# EAGLE library part MAX662A (library ICs)
MAX662ACPA+ IC, VOLT CONVERTER, DIP8, 662
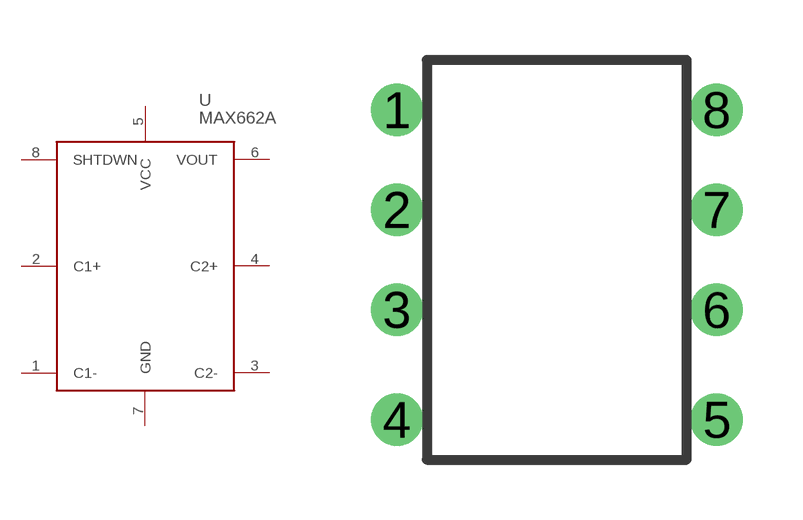
[diagram p77: symbol with the pads of DIP8; footprint DIP8]

Designator prefix U

## MAX662A (FARNELL: 1187942; PRICE_PER: 4.96; VALUE: MAX662A)  [DIP8]
1  C1-
2  C1+
3  C2-
4  C2+
5  VCC
6  VOUT
7  GND
8  SHTDWN

## Footprint DIP8 (pad centres in mm)
drill 0.8: 1 -4,3.75; 2 -4,1.25; 3 -4,-1.25; 4 -4,-4; 5 4,-4; 6 4,-1.25; 7 4,1.25; 8 4,3.75